# Altium schematic symbol library Inductance_RM8.SchLib: 1 symbol
Pins are listed as number, name and electrical type; pins without a type are passive.

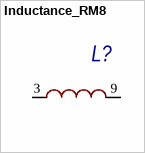
[diagram p0: symbol Inductance_RM8]

## Inductance_RM8
designator L?
pins: 3, 9